# Altium footprint library ic_dip.PcbLib: 6 footprints
Each footprint in its own frame and in the unit in brackets; x right, y up, seen from the top. Pads: shape width x height; smd on the part's side, far side on the other; paste and mask are expansions set on the pad; w line width, h text height; cw(c..) or ccw(c..) is an arc to the next point about the centre after c.
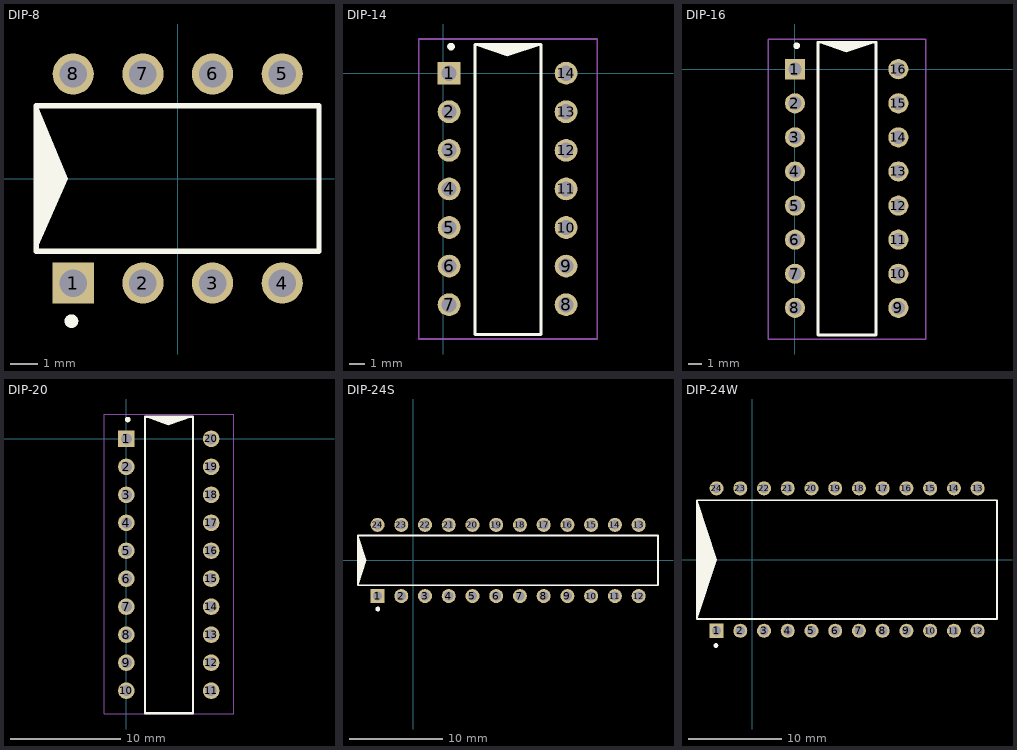
[diagram p0: the footprints below, top view; thin cyan lines are the x and y axes]

## DIP-8 [mm]
pads (8):
  rect 1.5x1.5 hole 1: 1(-3.81,-3.81)
  round 1.5 hole 1: 2(-1.27,-3.81) 3(1.27,-3.81) 4(3.81,-3.81) 5(3.81,3.81) 6(1.27,3.81) 7(-1.27,3.81) 8(-3.81,3.81)
Top Overlay:
  circle w0.25: c-3.875,-5.2 r0.125
  region: -5.15,-2.615 -5.125,2.673 -4,0
  lines w0.2: -5.15,1.68 -5.15,-2.65 ; -5.15,-2.65 -5.15,-0.635 ccw(c-5.15,0) -5.15,0.635 -5.15,2.65 5.15,2.65 5.15,-2.65 -5.15,-2.65
3D body "DIP8.STEP": height 5.57, standoff -2.81, extent -4.955,-3.91 4.955,3.91

## DIP-14 [mm]
pads (14):
  rect 1.5x1.5 hole 1: 1(0.375,0)
  round 1.5 hole 1: 2(0.375,-2.54) 3(0.375,-5.08) 4(0.375,-7.62) 5(0.375,-10.16) 6(0.375,-12.7) 7(0.375,-15.24) 8(8.075,-15.24) 9(8.075,-12.7) 10(8.075,-10.16) 11(8.075,-7.62) 12(8.075,-5.08) 13(8.075,-2.54) 14(8.075,0)
Top Overlay:
  circle w0.25: c0.5,1.75 r0.125
  region: 2.085,1.85 6.415,1.85 4.2,1.1
  lines w0.2: 2.085,-17.2 2.085,1.9 6.415,1.9 6.415,-17.2 2.085,-17.2
Mechanical 15:
  lines w0.1: -1.625,-17.5 10.125,-17.5 10.125,2.25 -1.625,2.25 -1.625,-17.5
3D body "DIP-14.STEP": height 3.81, standoff -3.17, extent 0.25,-17.125 8.25,1.925

## DIP-16 [mm]
pads (16):
  rect 1.5x1.5 hole 1: 1(0,0)
  round 1.5 hole 1: 2(0,-2.54) 3(0,-5.08) 4(0,-7.62) 5(0,-10.16) 6(0,-12.7) 7(0,-15.24) 8(0,-17.78) 9(7.7,-17.78) 10(7.7,-15.24) 11(7.7,-12.7) 12(7.7,-10.16) 13(7.7,-7.62) 14(7.7,-5.08) 15(7.7,-2.54) 16(7.7,0)
Top Overlay:
  circle w0.25: c0.125,1.75 r0.125
  region: 1.71,2 6.04,2 3.825,1.25
  lines w0.2: 1.71,-19.8 1.71,2 6.04,2 6.04,-19.8 1.71,-19.8
Mechanical 15:
  lines w0.1: -2,-20.1 9.75,-20.1 9.75,2.25 -2,2.25 -2,-20.1
3D body "DIP-16.STEP": height 5.15, standoff -2.49, extent -0.1,-19.89 7.77,2.11

## DIP-20 [mm]
pads (20):
  rect 1.5x1.5 hole 1: 1(0,0)
  round 1.5 hole 1: 2(0,-2.54) 3(0,-5.08) 4(0,-7.62) 5(0,-10.16) 6(0,-12.7) 7(0,-15.24) 8(0,-17.78) 9(0,-20.32) 10(0,-22.86) 11(7.7,-22.86) 12(7.7,-20.32) 13(7.7,-17.78) 14(7.7,-15.24) 15(7.7,-12.7) 16(7.7,-10.16) 17(7.7,-7.62) 18(7.7,-5.08) 19(7.7,-2.54) 20(7.7,0)
Top Overlay:
  circle w0.25: c0.125,1.75 r0.125
  region: 1.71,2 6.04,2 3.825,1.25
  lines w0.2: 1.71,-24.9 1.71,2 6.04,2 6.04,-24.9 1.71,-24.9
Mechanical 15:
  lines w0.1: -2,-24.975 9.75,-24.975 9.75,2.25 -2,2.25 -2,-24.975
3D body "20 pin dip.step": height 4.65, standoff -1.57, extent -0.037,-24.29 7.837,1.491

## DIP-24S [mm]
pads (24):
  rect 1.5x1.5 hole 1: 1(-3.81,-3.81)
  round 1.5 hole 1: 2(-1.27,-3.81) 3(1.27,-3.81) 4(3.81,-3.81) 5(6.35,-3.81) 6(8.89,-3.81) 7(11.43,-3.81) 8(13.97,-3.81) 9(16.51,-3.81) 10(19.05,-3.81) 11(21.59,-3.81) 12(24.13,-3.81) 13(24.13,3.81) 14(21.59,3.81) 15(19.05,3.81) 16(16.51,3.81) 17(13.97,3.81) 18(11.43,3.81) 19(8.89,3.81) 20(6.35,3.81) 21(3.81,3.81) 22(1.27,3.81) 23(-1.27,3.81) 24(-3.81,3.81)
Top Overlay:
  circle w0.25: c-3.775,-5.2 r0.125
  region: -5.85,-2.65 -5.9,2.65 -5,0
  lines w0.2: -5.9,1.68 -5.9,-2.65 ; -5.9,-2.65 26.2,-2.65 26.2,2.65 -5.9,2.65 -5.9,-2.65
3D body "DIP-24S.STEP": height 5.57, standoff -2.81, extent -5.905,-3.91 26.225,3.91

## DIP-24W [mm]
pads (24):
  rect 1.5x1.5 hole 1: 1(-3.81,-7.62)
  round 1.5 hole 1: 2(-1.27,-7.62) 3(1.27,-7.62) 4(3.81,-7.62) 5(6.35,-7.62) 6(8.89,-7.62) 7(11.43,-7.62) 8(13.97,-7.62) 9(16.51,-7.62) 10(19.05,-7.62) 11(21.59,-7.62) 12(24.13,-7.62) 13(24.13,7.62) 14(21.59,7.62) 15(19.05,7.62) 16(16.51,7.62) 17(13.97,7.62) 18(11.43,7.62) 19(8.89,7.62) 20(6.35,7.62) 21(3.81,7.62) 22(1.27,7.62) 23(-1.27,7.62) 24(-3.81,7.62)
Top Overlay:
  circle w0.25: c-3.875,-9.2 r0.125
  region: -5.9,-6.35 -5.9,6.35 -3.81,0
  lines w0.2: -5.9,-2.65 -5.9,6.35 26.2,6.35 26.2,-6.35 -5.9,-6.35 -5.9,1.68
3D body "DIP-24W.STEP": height 6.09, standoff -2.81, extent -5.97,-7.72 26.29,7.72